# EAGLE library part RV-8263-C8 (library RV-8263-C8)
Real-Time Clock Module Source: Datasheet <https://www.microcrystal.com/fileadmin/Media/Products/RTC/Datasheet/RV-8263-C8.pdf>
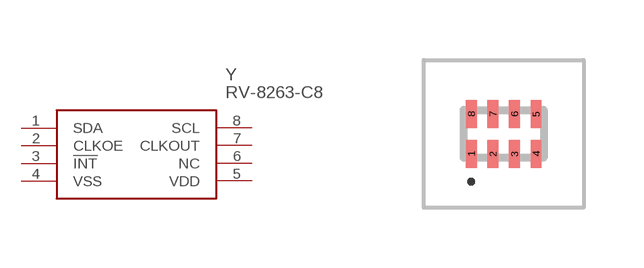
[diagram p0: symbol with the pads of RV8263C8; footprint RV8263C8]

Designator prefix Y

## RV-8263-C8 (Description: Real-Time Clock Module; Height: 0.7mm; Manufacturer_Name: Micro Crystal AG; Manufacturer_Part_Number: RV-8263-C8)  [RV8263C8]
1  SDA
2  CLKOE
3  !INT
4  VSS
5  VDD
6  NC  nc
7  CLKOUT
8  SCL

## Footprint RV8263C8 (pad centres in mm)
C8
smd 0.27 x 0.7: 1 -0.81,-0.5; 2 -0.27,-0.5; 3 0.27,-0.5; 4 0.81,-0.5; 5 0.81,0.5; 6 0.27,0.5; 7 -0.27,0.5; 8 -0.81,0.5